# EAGLE library part MEM2051 (library sd-mmc)
TransFlash TF Micro SD Card Socket Adapter
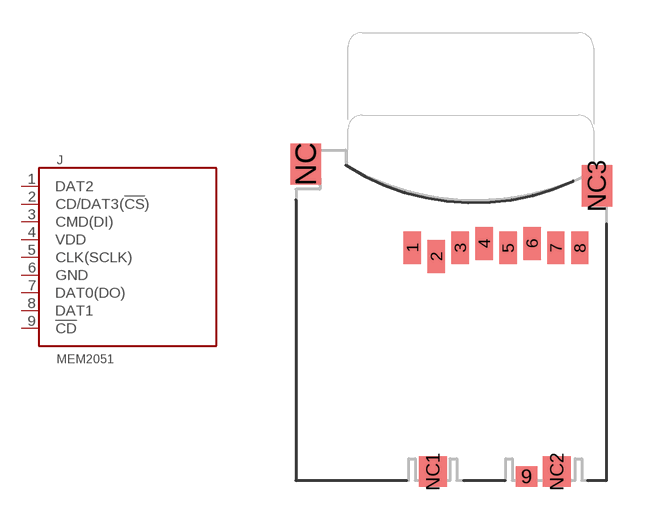
[diagram p4: symbol with the pads of MEM2051; footprint MEM2051]

Designator prefix J

## MEM2051-00-195-00  [MEM2051]
1  DAT2
2  CD/DAT3(!CS!)
3  CMD(DI)
4  VDD  pwr
5  CLK(SCLK)
6  GND  pwr
7  DAT0(DO)
8  DAT1
9  !CD

## Footprint MEM2051 (pad centres in mm)
smd 0.8 x 1.5: 1 -1.94,2.7; 2 -0.84,2.3; 3 0.26,2.7; 4 1.36,2.9; 5 2.46,2.7; 6 3.56,2.9; 7 4.66,2.7; 8 5.76,2.7
smd 1 x 0.95: 9 3.31,-7.825
smd 1.4 x 1.9: NC -6.85,6.55; NC3 6.55,5.55
smd 1.3 x 1.4: NC1 -1,-7.6; NC2 4.7,-7.6